# EAGLE library part 5103309-5 (library Tyco_By_element14_Batch_1)
HEADER, 2.54MM, 20WAY
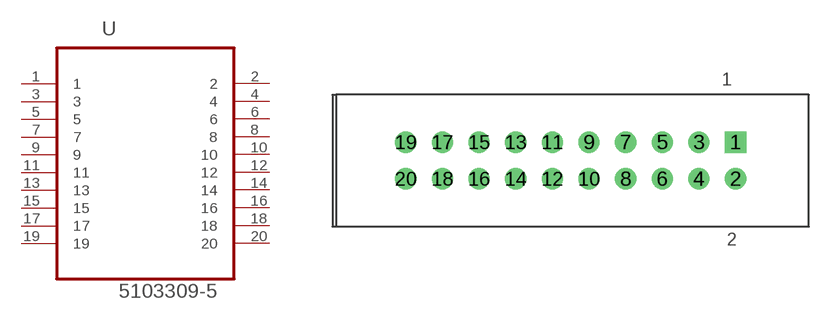
[diagram p101: symbol with the pads of TYCO_5103309-5; footprint TYCO_5103309-5]

Designator prefix U

## 5103309-5 (MPN: 5103309-5; OC_FARNELL: 1772811; OC_NEWARK: 83K8838; PACKAGE: 20WAY MALE HEADER; SUPPLIER: Tyco Electronics)  [TYCO_5103309-5]
1  1  pas
2  2  pas
3  3  pas
4  4  pas
5  5  pas
6  6  pas
7  7  pas
8  8  pas
9  9  pas
10  10  pas
11  11  pas
12  12  pas
13  13  pas
14  14  pas
15  15  pas
16  16  pas
17  17  pas
18  18  pas
19  19  pas
20  20  pas

## Footprint TYCO_5103309-5 (pad centres in mm)
drill 0.965 square: 1 0,2.54
drill 0.965: 2 0,0; 3 -2.54,2.54; 4 -2.54,0; 5 -5.08,2.54; 6 -5.08,0; 7 -7.62,2.54; 8 -7.62,0; 9 -10.16,2.54; 10 -10.16,0; 11 -12.7,2.54; 12 -12.7,0; 13 -15.24,2.54; 14 -15.24,0; 15 -17.78,2.54; 16 -17.78,0; 17 -20.32,2.54; 18 -20.32,0; 19 -22.86,2.54; 20 -22.86,0